# EAGLE library part AD593X (library LinnesLab-Sensors)
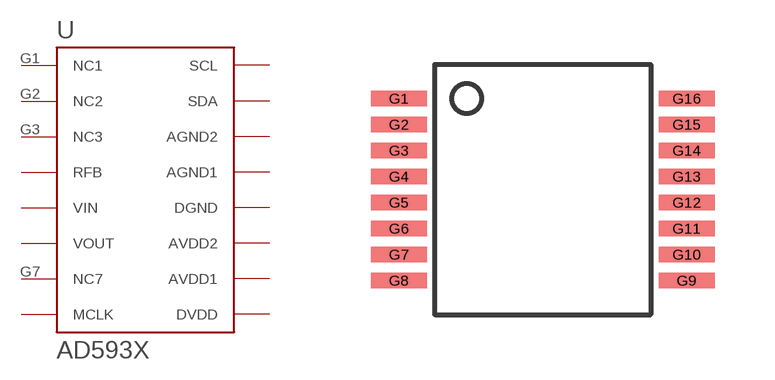
[diagram p1: symbol with the pads of 16-SSOP; footprint 16-SSOP]

Designator prefix U

## AD593X  [16-SSOP]
G1  NC1
G2  NC2
G3  NC3
G4  RFB
G5  VIN
G6  VOUT
G7  NC7
G8  MCLK
G9  DVDD
G10  AVDD1
G11  AVDD2
G12  DGND
G13  AGND1
G14  AGND2
G15  SDA
G16  SCL

## Footprint 16-SSOP (pad centres in mm)
smd 1.4 x 0.38: G1 -3.529,2.391; G2 -3.529,1.741; G3 -3.529,1.091; G4 -3.529,0.441; G5 -3.529,-0.209; G6 -3.529,-0.859; G7 -3.529,-1.509; G8 -3.529,-2.159; G9 3.671,-2.159; G10 3.671,-1.509; G11 3.671,-0.859; G12 3.671,-0.209; G13 3.671,0.441; G14 3.671,1.091; G15 3.671,1.741; G16 3.671,2.391